# Altium schematic symbol library GY-25.SchLib: 1 symbol
Pins are listed as number, name and electrical type; pins without a type are passive.

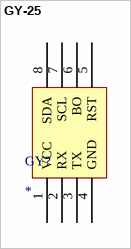
[diagram p0: symbol GY-25]

## GY-25
designator GY?
GY_25
footprint PCBComponent_1
pins: 1 VCC, 2 RX, 3 TX, 4 GND, 5 RST, 6 BO, 7 SCL, 8 SDA